# Altium schematic symbol library MSP430G2253.SchLib: 2 symbols
Pins are listed as number, name and electrical type; pins without a type are passive.

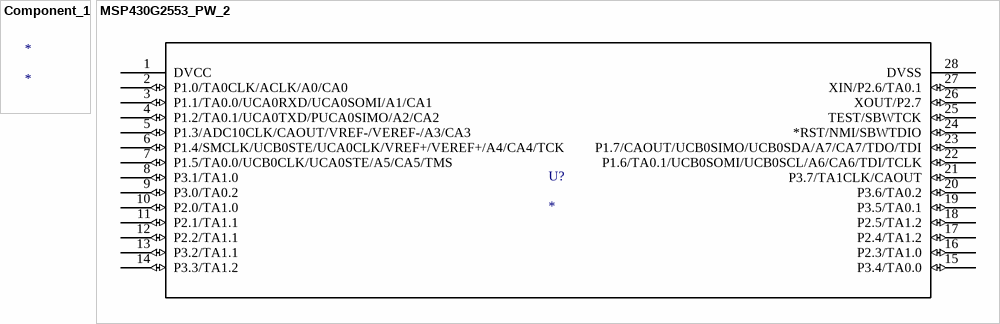
[diagram p0: symbols Component_1 to MSP430G2553_PW_2]

## Component_1
designator *

## MSP430G2553_PW_2
designator U?
Imported; Manufacturer_Part_Number: msp430g2553_pw_28; GENERIC_PART_NUMBER: MSP430G2553; Vendor: Texas Instruments; PACKAGE_DESIGNATOR: PW; PIN_COUNT: 28; FAMILY_NAME: Value Line; INDUSTRY_STD_PKG_TYPE: TSSOP; Datasheet URL: http://www.ti.com/lit/gpn/MSP430G2553; Manufacturer: Texas Instruments; RefDes: RefDes; Type: DEV; Value: Value
footprint PW28
pins: 1 DVCC (power), 2 P1.0/TA0CLK/ACLK/A0/CA0 (io), 3 P1.1/TA0.0/UCA0RXD/UCA0SOMI/A1/CA1 (io), 4 P1.2/TA0.1/UCA0TXD/PUCA0SIMO/A2/CA2 (io), 5 P1.3/ADC10CLK/CAOUT/VREF-/VEREF-/A3/CA3 (io), 6 P1.4/SMCLK/UCB0STE/UCA0CLK/VREF+/VEREF+/A4/CA4/TCK (io), 7 P1.5/TA0.0/UCB0CLK/UCA0STE/A5/CA5/TMS (io), 8 P3.1/TA1.0 (io), 9 P3.0/TA0.2 (io), 10 P2.0/TA1.0 (io), 11 P2.1/TA1.1 (io), 12 P2.2/TA1.1 (io), 13 P3.2/TA1.1 (io), 14 P3.3/TA1.2 (io), 15 P3.4/TA0.0 (io), 16 P2.3/TA1.0 (io), 17 P2.4/TA1.2 (io), 18 P2.5/TA1.2 (io), 19 P3.5/TA0.1 (io), 20 P3.6/TA0.2 (io), 21 P3.7/TA1CLK/CAOUT (io), 22 P1.6/TA0.1/UCB0SOMI/UCB0SCL/A6/CA6/TDI/TCLK (io), 23 P1.7/CAOUT/UCB0SIMO/UCB0SDA/A7/CA7/TDO/TDI (io), 24 *RST/NMI/SBWTDIO (io), 25 TEST/SBWTCK (io), 26 XOUT/P2.7 (io), 27 XIN/P2.6/TA0.1 (io), 28 DVSS (power)